# EAGLE library part PIXART_WII (library nintendo)
Custom footprint for Wii PixArt Sensor.
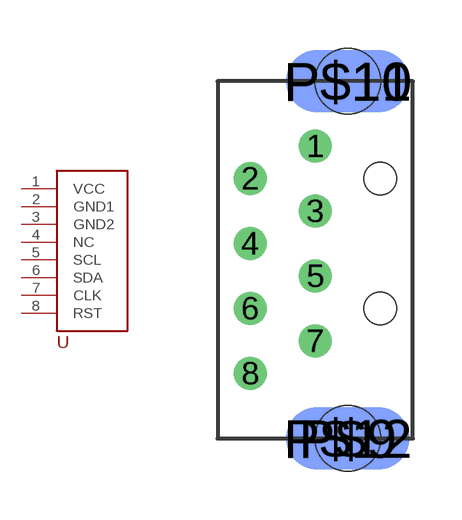
[diagram p0: symbol with the pads of PIXART_WII; footprint PIXART_WII]

Designator prefix -

## PIXART_WII  [PIXART_WII]
1  VCC  pwr
2  GND1  pwr
3  GND2  pwr
4  NC  nc
5  SCL
6  SDA
7  CLK  in
8  RST

## Footprint PIXART_WII (pad centres in mm)
Custom footprint for Wii PixArt Sensor.
drill 0.5: 1 -0.27,3.365; 2 -2.27,2.365; 3 -0.27,1.365; 4 -2.27,0.365; 5 -0.27,-0.635; 6 -2.27,-1.635; 7 -0.27,-2.635; 8 -2.27,-3.635
smd 3.81 x 1.93: P$9 0.73,-5.635; P$10 0.73,5.365
smd 3.81 x 1.93 bottom: P$11 0.73,5.365; P$12 0.73,-5.635
hole 1 at 1.73,2.365
hole 1 at 1.73,-1.635
hole 2 at 0.73,5.365
hole 2 at 0.73,-5.635